# EAGLE library part LTC3807 (library AmelioPM)
LTC3807 Synchronous Buck Controller
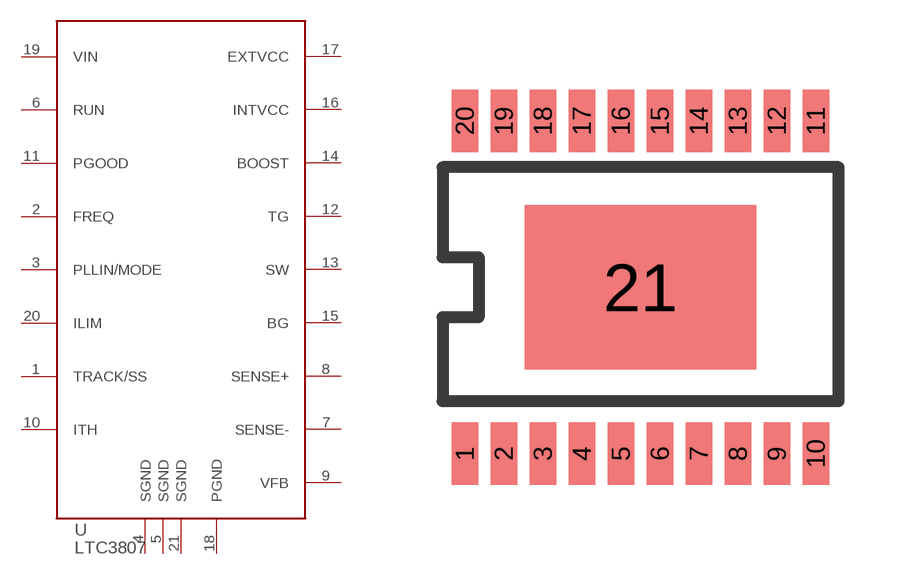
[diagram p0: symbol with the pads of TSSOP20CB(FE); footprint TSSOP20CB(FE)]

Designator prefix U

## LTC3807  [TSSOP20CB(FE)]
1  TRACK/SS
2  FREQ
3  PLLIN/MODE
4  SGND
5  SGND
6  RUN
7  SENSE-
8  SENSE+
9  VFB
10  ITH
11  PGOOD
12  TG
13  SW
14  BOOST
15  BG
16  INTVCC
17  EXTVCC
18  PGND
19  VIN
20  ILIM
21  SGND

## Footprint TSSOP20CB(FE) (pad centres in mm)
Package generated from: TSSOP20CB(FE).asc (!PADS-POWERPCB-V5.0-BASIC! DESIGN DATABASE ASCII FILE 1.0) with :import-pads-powerpcb-v5.ulp Version 1.0.1 at 04.10.2012 14:11:40
smd 0.66 x 1.575: 1 -4.388,-4.162; 2 -3.413,-4.162; 3 -2.438,-4.162; 4 -1.462,-4.162; 5 -0.487,-4.162; 6 0.487,-4.162; 7 1.462,-4.162; 8 2.438,-4.162; 9 3.413,-4.162; 10 4.388,-4.162; 11 4.388,4.162; 12 3.413,4.162; 13 2.438,4.162; 14 1.462,4.162; 15 0.487,4.162; 16 -0.487,4.162; 17 -1.462,4.162; 18 -2.438,4.162; 19 -3.413,4.162; 20 -4.388,4.162
smd 5.79 x 4.11: 21 0,0